# Altium schematic symbol library Schlib.SchLib: 28 symbols
Pins are listed as number, name and electrical type; pins without a type are passive.

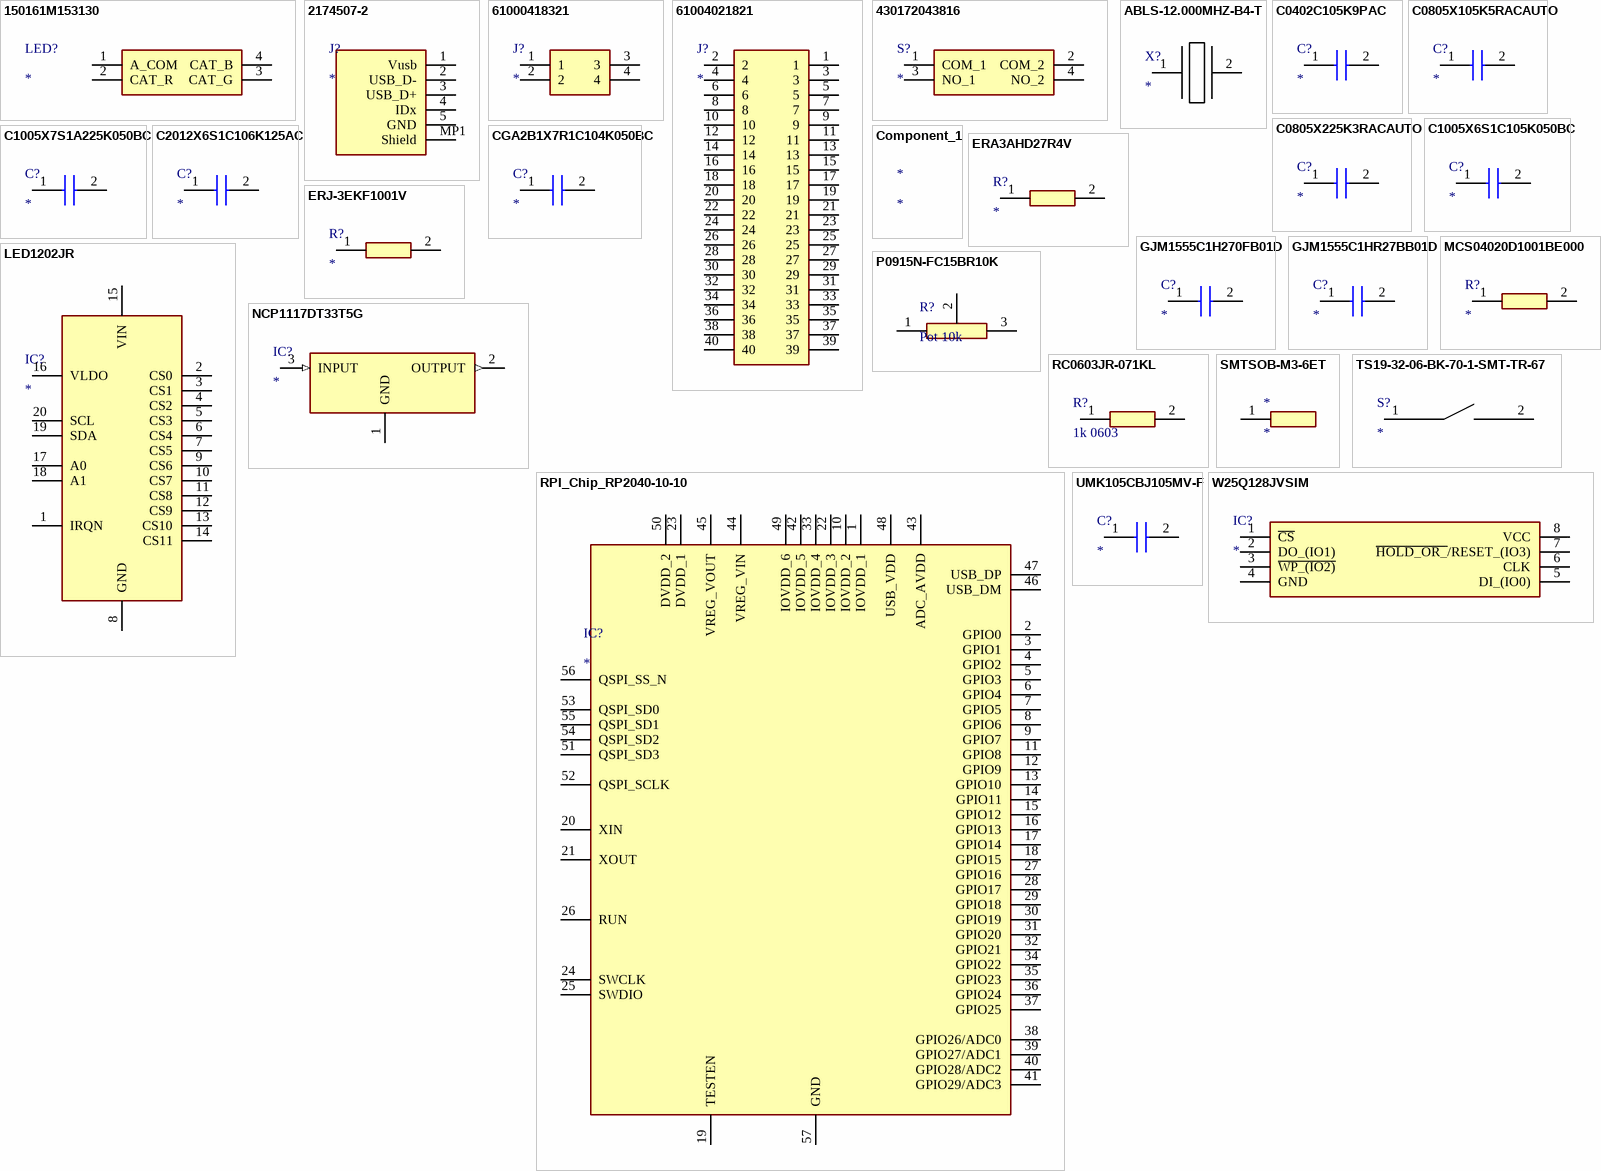
[diagram p0: symbols 150161M153130 to W25Q128JVSIM]

## 150161M153130
designator LED?
RGB LED; Manufacturer_Name: Wurth Elektronik; Manufacturer_Part_Number: 150161M153130; Datasheet Link: https://www.mouser.co.uk/datasheet/2/445/150161M153130-1838821.pdf; Height: 1.7mm; Mouser Part Number: 710-150161M153130; Mouser Price/Stock: https://www.mouser.co.uk/ProductDetail/Wurth-Elektronik/150161M153130?qs=GedFDFLaBXEcD4evLrps3w%3D%3D
footprint 150161M153130
pins: 1 A_COM, 2 CAT_R, 3 CAT_G, 4 CAT_B

## 2174507-2
designator J?
Micro USB Connector; Manufacturer_Name: TE Connectivity; Manufacturer_Part_Number: 2174507-2; Datasheet Link: https://componentsearchengine.com/Datasheets/1/2174507-2.pdf; Height: 2.86mm; Mouser Part Number: 571-2174507-2; Mouser Price/Stock: https://www.mouser.co.uk/ProductDetail/TE-Connectivity/2174507-2?qs=kAqyOuzYGe%252BUWCFD1qNBLQ%3D%3D; Arrow Part Number: 2174507-2; Arrow Price/Stock: https://www.arrow.com/en/products/2174507-2/te-connectivity?region=nac
footprint 21745072
pins: 1 Vusb, 2 USB_D-, 3 USB_D+, 4 IDx, 5 GND, MP1 Shield

## 61000418321
designator J?
Connector; Manufacturer_Name: Wurth Elektronik; Manufacturer_Part_Number: 61000418321; Datasheet Link: https://www.we-online.com/catalog/datasheet/61000418321.pdf
footprint HUSRSP4W64P254_1016X254X854P
pins: 1, 2, 3, 4

## 61004021821
designator J?
40 pin 2.54mm header; Manufacturer_Name: Wurth Elektronik; Manufacturer_Part_Number: 61004021821; Datasheet Link: https://www.we-online.fr/catalog/datasheet/61004021821.pdf; Height: 7.6mm
footprint 61004021821
pins: 1, 2, 3, 4, 5, 6, 7, 8, 9, 10, 11, 12, 13, 14, 15, 16, 17, 18, 19, 20, 21, 22, 23, 24, 25, 26, 27, 28, 29, 30, 31, 32, 33, 34, 35, 36, 37, 38, 39, 40

## 430172043816
designator S?
Switch; Manufacturer_Name: Wurth Elektronik; Manufacturer_Part_Number: 430172043816; Datasheet Link: https://www.we-online.com/catalog/datasheet/430172043816.pdf; Height: 4.3mm; Mouser Part Number: 710-430172043816; Mouser Price/Stock: https://www.mouser.co.uk/ProductDetail/Wurth-Elektronik/430172043816?qs=sPbYRqrBIVkS9EzfxGfqQA%3D%3D
footprint 430172043816
pins: 1 COM_1, 2 COM_2, 3 NO_1, 4 NO_2

## ABLS-12.000MHZ-B4-T
designator X?
Crystal oscillator; Manufacturer_Name: ABRACON; Manufacturer_Part_Number: ABLS-12.000MHZ-B4-T; Datasheet Link: https://componentsearchengine.com/Datasheets/2/ABLS-12.000MHZ-B4-T.pdf; Mouser Part Number: 815-ABLS-12.0M-T; Mouser Price/Stock: https://www.mouser.co.uk/ProductDetail/ABRACON/ABLS-12.000MHZ-B4-T?qs=yTU0IcKoRlGSQ8ooxPPVnQ%3D%3D; Arrow Part Number: ABLS-12.000MHZ-B4-T; Arrow Price/Stock: https://www.arrow.com/en/products/abls-12.000mhz-b4-t/abracon?region=nac
footprint HC/49US-(AT49)_1
pins: 1, 2

## C0402C105K9PAC
designator C?
Capacitor 1µF 6V3 0402; Manufacturer_Name: KEMET; Manufacturer_Part_Number: C0402C105K9PAC; Datasheet Link: https://content.kemet.com/datasheets/KEM_C1002_X7R_SMD.pdf; Height: 0.55mm; Mouser Part Number: 80-C0402C105K9PAC; Mouser Price/Stock: https://www.mouser.co.uk/ProductDetail/KEMET/C0402C105K9PAC?qs=AHS6Mz2dKxPyNrxaU50ZkQ%3D%3D; Arrow Part Number: C0402C105K9PAC; Arrow Price/Stock: https://www.arrow.com/en/products/c0402c105k9pac/kemet-corporation?region=nac
footprint CAPC1005X55N
pins: 1, 2

## C0805X105K5RACAUTO
designator C?
Capacitor 1µF 50V X7R 0603; Manufacturer_Name: KEMET; Manufacturer_Part_Number: C0805X105K5RACAUTO; Datasheet Link: https://content.kemet.com/datasheets/KEM_C1078_X7R_FT-CAP_AUTO_SMD.pdf; Height: 1.45mm; Mouser Part Number: 80-C0805X105K5RAUTO; Mouser Price/Stock: https://www.mouser.co.uk/ProductDetail/KEMET/C0805X105K5RACAUTO?qs=HBWAp0VN4Rg97tWg6%252BgIPg%3D%3D; Arrow Part Number: C0805X105K5RACAUTO; Arrow Price/Stock: https://www.arrow.com/en/products/c0805x105k5racauto/kemet-corporation?region=nac
footprint CAPC2012X145N
pins: 1, 2

## C0805X225K3RACAUTO
designator C?
Capacitor 2µ2F 25V X7R 0603; Manufacturer_Name: KEMET; Manufacturer_Part_Number: C0805X225K3RACAUTO; Datasheet Link: https://content.kemet.com/datasheets/KEM_C1078_X7R_FT-CAP_AUTO_SMD.pdf; Height: 1.4mm; Mouser Part Number: 80-C0805X225K3RAUTO; Mouser Price/Stock: https://www.mouser.co.uk/ProductDetail/KEMET/C0805X225K3RACAUTO?qs=HBWAp0VN4RiOFLf7ztePRQ%3D%3D
footprint CAPC2012X145N
pins: 1, 2

## C1005X6S1C105K050BC
designator C?
Capacitor 0402 1µF 16V; Manufacturer_Name: TDK; Manufacturer_Part_Number: C1005X6S1C105K050BC; Datasheet Link: https://product.tdk.com/system/files/dam/doc/product/capacitor/ceramic/mlcc/catalog/mlcc_commercial_general_en.pdf; Height: 0.55mm; Mouser Part Number: 810-C1005X6S1C105K; Mouser Price/Stock: https://www.mouser.co.uk/ProductDetail/TDK/C1005X6S1C105K050BC?qs=dfay7wIA1uGWVKHpqb9RWw%3D%3D; Arrow Part Number: C1005X6S1C105K050BC; Arrow Price/Stock: https://www.arrow.com/en/products/c1005x6s1c105k050bc/tdk?region=nac
footprint C1005_Commercial
pins: 1, 2

## C1005X7S1A225K050BC
designator C?
2µ2F 0402; Manufacturer_Name: TDK; Manufacturer_Part_Number: C1005X7S1A225K050BC; Datasheet Link: https://product.tdk.com/system/files/dam/doc/product/capacitor/ceramic/mlcc/catalog/mlcc_commercial_general_en.pdf; Height: 0.55mm; Mouser Part Number: 810-C1005X7S1A225K; Mouser Price/Stock: https://www.mouser.co.uk/ProductDetail/TDK/C1005X7S1A225K050BC?qs=dfay7wIA1uFANmjMJAzwOA%3D%3D; Arrow Part Number: C1005X7S1A225K050BC; Arrow Price/Stock: https://www.arrow.com/en/products/c1005x7s1a225k050bc/tdk?region=nac
footprint C1005_Commercial
pins: 1, 2

## C2012X6S1C106K125AC
designator C?
Capacitor 10µF 16V 0805; Manufacturer_Name: TDK; Manufacturer_Part_Number: C2012X6S1C106K125AC; Datasheet Link: https://product.tdk.com/system/files/dam/doc/product/capacitor/ceramic/mlcc/catalog/mlcc_commercial_general_en.pdf; Height: 0.75mm; Mouser Part Number: 810-C2012X6S1C106K1C; Mouser Price/Stock: https://www.mouser.co.uk/ProductDetail/TDK/C2012X6S1C106K125AC?qs=QN15moyvde8Kow3LarSCcA%3D%3D; Arrow Part Number: C2012X6S1C106K125AC; Arrow Price/Stock: https://www.arrow.com/en/products/c2012x6s1c106k125ac/tdk
footprint C2012_Commercial
pins: 1, 2

## CGA2B1X7R1C104K050BC
designator C?
Capacitor 100nF 16V; Manufacturer_Name: TDK; Manufacturer_Part_Number: CGA2B1X7R1C104K050BC; Datasheet Link: https://product.tdk.com/system/files/dam/doc/product/capacitor/ceramic/mlcc/catalog/mlcc_automotive_general_en.pdf; Height: 0.55mm; Mouser Part Number: 810-CGA2B1X7R1C104K; Mouser Price/Stock: https://www.mouser.co.uk/ProductDetail/TDK/CGA2B1X7R1C104K050BC?qs=NRhsANhppD8tgIeNjgC%2Fqg%3D%3D; Arrow Part Number: CGA2B1X7R1C104K050BC; Arrow Price/Stock: https://www.arrow.com/en/products/cga2b1x7r1c104k050bc/tdk?region=nac
footprint CAPC1005X55N
pins: 1, 2

## Component_1
designator *

## ERA3AHD27R4V
designator R?
Resistor 0603 27.4Ohm; Manufacturer_Name: Panasonic; Manufacturer_Part_Number: ERA3AHD27R4V; Datasheet Link: http://industrial.panasonic.com/cdbs/www-data/pdf/RDM0000/AOA0000C307.pdf; Height: 0.5mm
footprint ERA3A_(0603)
pins: 1, 2

## ERJ-3EKF1001V
designator R?
Resistor 1k 0603; Manufacturer_Name: Panasonic; Manufacturer_Part_Number: ERJ-3EKF1001V; Datasheet Link: https://industrial.panasonic.com/cdbs/www-data/pdf/RDA0000/AOA0000C304.pdf; Height: 0.55mm; Mouser Part Number: 667-ERJ-3EKF1001V; Mouser Price/Stock: https://www.mouser.co.uk/ProductDetail/Panasonic/ERJ-3EKF1001V?qs=H7k1u0Mp9JTM8yQxOuvoDg%3D%3D; Arrow Part Number: ERJ-3EKF1001V; Arrow Price/Stock: https://www.arrow.com/en/products/erj-3ekf1001v/panasonic?region=nac
footprint ERJ3EK_(0603)
pins: 1, 2

## GJM1555C1H270FB01D
designator C?
Capacitor 27pF 50V; Manufacturer_Name: Murata Electronics; Manufacturer_Part_Number: GJM1555C1H270FB01D; Datasheet Link: https://psearch.en.murata.com/capacitor/product/GJM1555C1H270FB01%23.html; Height: 0.55mm; Mouser Part Number: 81-GJM1555C1H270FB1D; Mouser Price/Stock: https://www.mouser.co.uk/ProductDetail/Murata-Electronics/GJM1555C1H270FB01D?qs=ui%252B2d9lVEI5sysymhzLg%252Bw%3D%3D; Arrow Part Number: GJM1555C1H270FB01D; Arrow Price/Stock: https://www.arrow.com/en/products/gjm1555c1h270fb01d/murata-manufacturing?region=nac
footprint CAPC1005X55N
pins: 1, 2

## GJM1555C1HR27BB01D
designator C?
Capacitor p27F 50V; Manufacturer_Name: Murata Electronics; Manufacturer_Part_Number: GJM1555C1HR27BB01D; Datasheet Link: https://componentsearchengine.com/Datasheets/2/GJM1555C1HR27BB01D.pdf; Height: 0.55mm; Mouser Part Number: 81-GJM1555C1HR27BB1D; Mouser Price/Stock: https://www.mouser.com/Search/Refine.aspx?Keyword=81-GJM1555C1HR27BB1D
footprint CAPC1005X55N
pins: 1, 2

## LED1202JR
designator IC?
LED driver; Manufacturer_Name: STMicroelectronics; Manufacturer_Part_Number: LED1202JR; Datasheet Link: https://componentsearchengine.com/Datasheets/1/LED1202JR.pdf; Height: 0.653mm; Mouser Part Number: 511-LED1202JR; Mouser Price/Stock: https://www.mouser.co.uk/ProductDetail/STMicroelectronics/LED1202JR?qs=P19jvy6W2mcPsIm9dkDZbQ%3D%3D; Arrow Part Number: LED1202JR; Arrow Price/Stock: https://www.arrow.com/en/products/led1202jr/stmicroelectronics?region=nac
footprint QFN20 3x3 (0,5mm pitch)
pins: 1 IRQN, 2 CS0, 3 CS1, 4 CS2, 5 CS3, 6 CS4, 7 CS5, 8 GND, 9 CS6, 10 CS7, 11 CS8, 12 CS9, 13 CS10, 14 CS11, 15 VIN, 16 VLDO, 17 A0, 18 A1, 19 SDA, 20 SCL

## MCS04020D1001BE000
designator R?
Resistor 1k 0402; Manufacturer_Name: Vishay; Manufacturer_Part_Number: MCS04020D1001BE000; Datasheet Link: http://www.vishay.com/docs/28705/mcx0x0xpro.pdf; Height: 0.37mm; Mouser Part Number: 594-MCS04020D1001BE0; Mouser Price/Stock: https://www.mouser.co.uk/ProductDetail/Vishay-Beyschlag/MCS04020D1001BE000?qs=H5EaGE3Pc5m43MFwYZQH1Q%3D%3D
footprint RESC1005X37N
pins: 1, 2

## NCP1117DT33T5G
designator IC?
LDO 3V3 out; Manufacturer_Name: onsemi; Manufacturer_Part_Number: NCP1117DT33T5G; Datasheet Link: http://www.onsemi.com/pub/Collateral/NCP1117-D.PDF; Height: 2.38mm; Mouser Part Number: 863-NCP1117DT33T5G; Mouser Price/Stock: https://www.mouser.co.uk/ProductDetail/onsemi/NCP1117DT33T5G?qs=Gev%252BmEvV0ibY9yFNc3ZYyw%3D%3D; Arrow Part Number: NCP1117DT33T5G; Arrow Price/Stock: https://www.arrow.com/en/products/ncp1117dt33t5g/on-semiconductor?region=nac
footprint TO229P990X238-4N
pins: 1 GND (power), 2 OUTPUT (out), 3 INPUT (in)

## P0915N-FC15BR10K
designator R?, comment Pot 10k
Manufacturer_Name: TT Electronics; Manufacturer_Part_Number: P0915N-FC15BR10K; Datasheet Link: https://datasheet.datasheetarchive.com/originals/distributors/Datasheets_SAMA/b6f9aacdbf7d1767bdcee7cb40d23820.pdf; Height: 11mm; Mouser Part Number: 858-P0915N-FC15BR10K; Mouser Price/Stock: https://www.mouser.com/Search/Refine.aspx?Keyword=858-P0915N-FC15BR10K; Arrow Part Number: P0915N-FC15BR10K; Arrow Price/Stock: https://www.arrow.com/en/products/p0915n-fc15br10k/bi-technologies?region=nac
footprint P0915NFC15BR10K
pins: 1, 2, 3

## RC0603JR-071KL
designator R?, comment 1k 0603
Resistor 1k 0603; Manufacturer_Name: KEMET; Manufacturer_Part_Number: RC0603JR-071KL; Datasheet Link: https://datasheet.datasheetarchive.com/originals/distributors/Datasheets_SAMA/902f9e387b938f871d31120f5fc1d65e.pdf; Height: 0.55mm; Mouser Part Number: 603-RC0603JR-071KL; Mouser Price/Stock: https://www.mouser.co.uk/ProductDetail/YAGEO/RC0603JR-071KL?qs=%2F9ZTgpVJnN7bctK4R%2FDEoA%3D%3D; Arrow Part Number: RC0603JR-071KL; Arrow Price/Stock: https://www.arrow.com/en/products/rc0603jr-071kl/yageo?region=europe
footprint RESC1608X55N
pins: 1, 2

## RPI_Chip_RP2040-10-10
designator IC?
RP2040 MCU; Manufacturer_Name: RASPBERRY-PI; Manufacturer_Part_Number: RPI Chip RP2040-10-10; Datasheet Link: https://datasheets.raspberrypi.com/rp2040/rp2040-datasheet.pdf; Height: 0.9mm; Mouser Part Number: 358-RP2040CHIP-10-10; Mouser Price/Stock: https://www.mouser.co.uk/ProductDetail/Raspberry-Pi/RPI-Chip-RP2040-10-10?qs=QNEnbhJQKva2vG4DZ5VuhA%3D%3D
footprint QFN40P700X700X90-57N-D
pins: 1 IOVDD_1, 2 GPIO0, 3 GPIO1, 4 GPIO2, 5 GPIO3, 6 GPIO4, 7 GPIO5, 8 GPIO6, 9 GPIO7, 10 IOVDD_2, 11 GPIO8, 12 GPIO9, 13 GPIO10, 14 GPIO11, 15 GPIO12, 16 GPIO13, 17 GPIO14, 18 GPIO15, 19 TESTEN, 20 XIN, 21 XOUT, 22 IOVDD_3, 23 DVDD_1, 24 SWCLK, 25 SWDIO, 26 RUN, 27 GPIO16, 28 GPIO17, 29 GPIO18, 30 GPIO19, 31 GPIO20, 32 GPIO21, 33 IOVDD_4, 34 GPIO22, 35 GPIO23, 36 GPIO24, 37 GPIO25, 38 GPIO26/ADC0, 39 GPIO27/ADC1, 40 GPIO28/ADC2, 41 GPIO29/ADC3, 42 IOVDD_5, 43 ADC_AVDD, 44 VREG_VIN, 45 VREG_VOUT, 46 USB_DM, 47 USB_DP, 48 USB_VDD, 49 IOVDD_6, 50 DVDD_2, 51 QSPI_SD3, 52 QSPI_SCLK, 53 QSPI_SD0, 54 QSPI_SD2, 55 QSPI_SD1, 56 QSPI_SS_N, 57 GND

## SMTSOB-M3-6ET
designator *
Spacer 8mm
footprint SMTSOB-M3-6ET (Distance M3)
pins: 1

## TS19-32-06-BK-70-1-SMT-TR-67
designator S?
Switch; Manufacturer_Name: CUI Inc.; Manufacturer_Part_Number: TS19-32-06-BK-70-1-SMT-TR-67; Datasheet Link: https://www.cuidevices.com/product/resource/ts19.pdf; Height: 0.65mm; Mouser Part Number: 179-TS193206BK701SM; Mouser Price/Stock: https://www.mouser.co.uk/ProductDetail/CUI-Devices/TS19-32-06-BK-70-1-SMT-TR-67?qs=tlsG%2FOw5FFj0aJkgA5InKg%3D%3D
footprint TS193206BK701SMTTR67
pins: 1, 2

## UMK105CBJ105MV-F
designator C?
1µF 0402; Manufacturer_Name: TAIYO YUDEN; Manufacturer_Part_Number: UMK105CBJ105MV-F; Datasheet Link: https://datasheet.datasheetarchive.com/originals/distributors/DKDS-8/146244.pdf; Height: 0.7mm; Mouser Part Number: 963-UMK105CBJ105MV-F; Mouser Price/Stock: https://www.mouser.co.uk/ProductDetail/Taiyo-Yuden/UMK105CBJ105MV-F?qs=lkMpTOwszhfe5N0wQnb5vQ%3D%3D
footprint CAPC1106X70N
pins: 1, 2

## W25Q128JVSIM
designator IC?
128 SPI Nor flash; Manufacturer_Name: Winbond; Manufacturer_Part_Number: W25Q128JVSIM; Datasheet Link: https://www.winbond.com/hq/search-resource-file.jsp?partNo=W25Q128JVSIM&type=datasheet; Height: 2.16mm; Mouser Part Number: 454-W25Q128JVSIM; Mouser Price/Stock: https://www.mouser.co.uk/ProductDetail/Winbond/W25Q128JVSIM?qs=qSfuJ%252Bfl%2Fd6d7A5WLggp6w%3D%3D; Arrow Part Number: W25Q128JVSIM; Arrow Price/Stock: https://www.arrow.com/en/products/w25q128jvsim/winbond-electronics?region=nac
footprint SOIC127P790X216-8N
pins: 1 ~{CS}, 2 DO_(IO1), 3 ~{WP_(IO2)}, 4 GND, 5 DI_(IO0), 6 CLK, 7 ~{HOLD_OR_}/RESET_(IO3), 8 VCC